# EAGLE library part DD50P564GTXLF (library SSW-130-01-G-S)
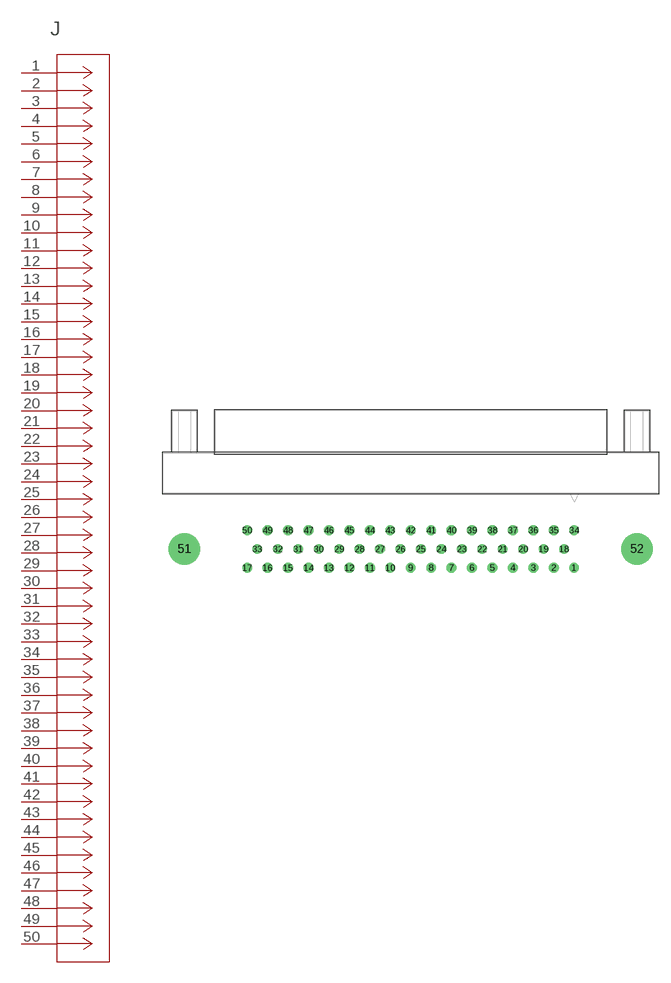
[diagram p7: symbol with the pads of CONN_DD50P564GTXLF_AMP; footprint CONN_DD50P564GTXLF_AMP]

Designator prefix J

## DD50P564GTXLF (COPYRIGHT: Copyright (C) 2024 Ultra Librarian. All rights reserved.; MANUFACTURER_PART_NUMBER: DD50P564GTXLF; MFR_NAME: Amphenol ICC; TYPE: D-Sub Connector Assemblies)  [CONN_DD50P564GTXLF_AMP]
1  1  pas
2  2  pas
3  3  pas
4  4  pas
5  5  pas
6  6  pas
7  7  pas
8  8  pas
9  9  pas
10  10  pas
11  11  pas
12  12  pas
13  13  pas
14  14  pas
15  15  pas
16  16  pas
17  17  pas
18  18  pas
19  19  pas
20  20  pas
21  21  pas
22  22  pas
23  23  pas
24  24  pas
25  25  pas
26  26  pas
27  27  pas
28  28  pas
29  29  pas
30  30  pas
31  31  pas
32  32  pas
33  33  pas
34  34  pas
35  35  pas
36  36  pas
37  37  pas
38  38  pas
39  39  pas
40  40  pas
41  41  pas
42  42  pas
43  43  pas
44  44  pas
45  45  pas
46  46  pas
47  47  pas
48  48  pas
49  49  pas
50  50  pas

## Footprint CONN_DD50P564GTXLF_AMP (pad centres in mm)
drill 0.813 pad 1.321: 1 22.073,-15.469; 2 19.329,-15.469; 3 16.561,-15.469; 4 13.792,-15.469; 5 11.049,-15.469; 6 8.28,-15.469; 7 5.512,-15.469; 8 2.769,-15.469; 9 0,-15.469; 10 -2.769,-15.469; 11 -5.512,-15.469; 12 -8.28,-15.469; 13 -11.049,-15.469; 14 -13.792,-15.469; 15 -16.561,-15.469; 16 -19.329,-15.469; 17 -22.073,-15.469; 18 20.701,-12.929; 19 17.932,-12.929; 20 15.189,-12.929; 21 12.421,-12.929; 22 9.652,-12.929; 23 6.909,-12.929; 24 4.14,-12.929; 25 1.372,-12.929; 26 -1.372,-12.929; 27 -4.14,-12.929; 28 -6.909,-12.929; 29 -9.652,-12.929; 30 -12.421,-12.929; 31 -15.189,-12.929; 32 -17.932,-12.929; 33 -20.701,-12.929; 34 22.073,-10.389; 35 19.329,-10.389; 36 16.561,-10.389; 37 13.792,-10.389; 38 11.049,-10.389; 39 8.28,-10.389; 40 5.512,-10.389; 41 2.769,-10.389; 42 0,-10.389; 43 -2.769,-10.389; 44 -5.512,-10.389; 45 -8.28,-10.389; 46 -11.049,-10.389; 47 -13.792,-10.389; 48 -16.561,-10.389; 49 -19.329,-10.389; 50 -22.073,-10.389
drill 3.2 pad 3.2: 51 -30.556,-12.929; 52 30.556,-12.929